# Altium schematic symbol library DIVERSOS.SchLib: 17 symbols
Pins are listed as number, name and electrical type; pins without a type are passive.

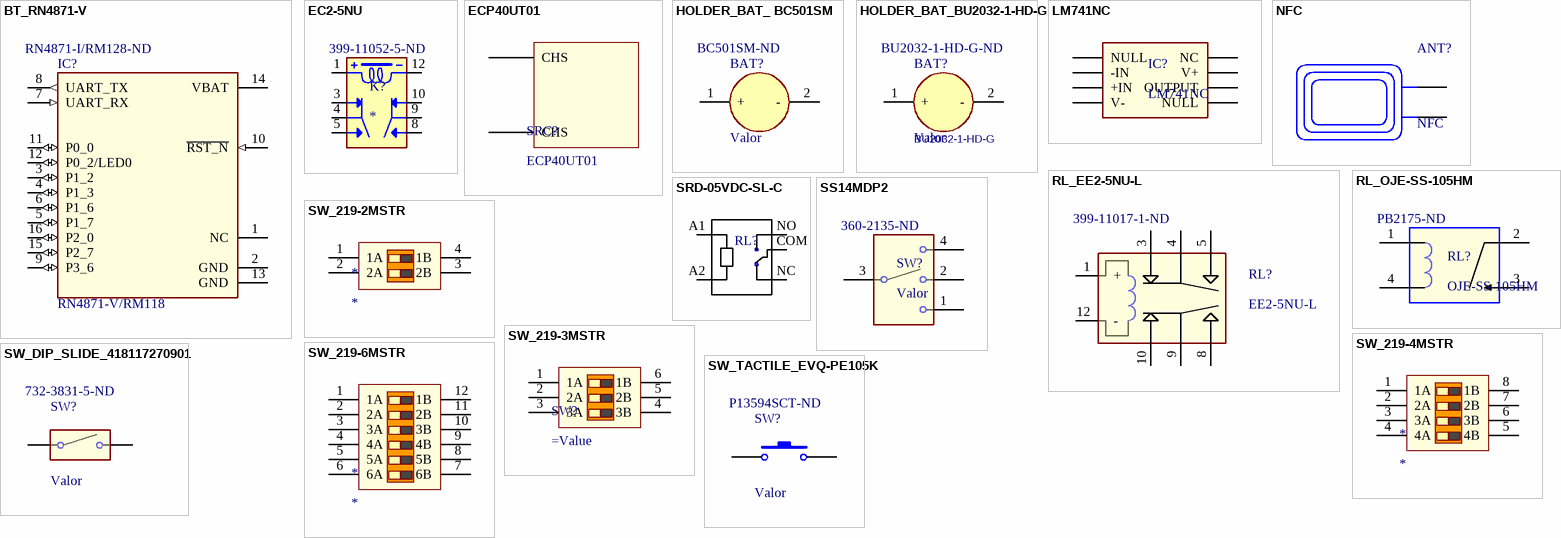
[diagram p0: symbols BT_RN4871-V to SW_TACTILE_EVQ-PE105K]

## BT_RN4871-V
designator IC?, comment RN4871-V/RM118  Supplier Part Number 1: RN4871-I/RM128-ND
Bluetooth 4.2 BLE Module, ASCII Interface, Shielded, Antenna, 9x11.5mm, Industrial Temp; Manufacturer Part Number: RN4871-I/RM128; Fabricante: Microchip; Footprint: SMD-16 Microchip; MPN: RN4871-V/RM118; Value: RN4871-V/RM118; ComponentLink1Description: loja; ComponentLink1URL: https://www.digikey.com/product-detail/en/microchip-technology/RN4871-I-RM128/RN4871-I-RM128-ND/8037765; ComponentLink2Description: datasheet; ComponentLink2URL: http://ww1.microchip.com/downloads/en/DeviceDoc/50002489C.pdf; Supplier 1: Digi-Key; Manufacturer: Microchip; RoHS: No; Category: RF Receivers, Transceivers; Stock 1: 1480; Pricing 1: 1=7,03000, 25=6,37000 (USD); ComponentLink3URL: http://www.microchip.com/mymicrochip/filehandler.aspx?ddocname=en586027&src-supplier=Digi-Key; ComponentLink3Description: http://www.microchip.com/mymicrochip/filehandler.aspx?ddocname=en586027&src-supplier=Digi-Key
footprint BT_RN4871-V/RM118 (SMD 11.5X9)
pins: 1 NC, 2 GND (power), 3 P1_2 (io), 4 P1_3 (io), 5 P1_7 (io), 6 P1_6 (io), 7 UART_RX (in), 8 UART_TX (out), 9 P3_6 (io), 10 ~{RST_N} (in), 11 P0_0 (io), 12 P0_2/LED0 (io), 13 GND (power), 14 VBAT (power), 15 P2_7 (io), 16 P2_0 (io)

## EC2-5NU
designator K?  Supplier Part Number 1: 399-11052-5-ND
Electromechanical Relay DPDT 2A 5VDC 178Ohm Through Hole; MP: EC2-5NU; MF: KEMET; Coil Current: 28mA; Coil Resistance: 178R; Coil Voltage (DC): 5V; Operate Time: 2ms; Max Voltage Rating (AC): 250V; Max Voltage Rating (DC): 220V; Coil Type: Non-Latching; Release Time: 1ms; Coil Power: 140mW; Number of Poles: 1; Relay Type: General Purpose; FootPrint: RELAY_EC2-5NU; Value: *; ComponentLink1Description: LOJA; ComponentLink1URL: https://www.digikey.com/products/en?keywords=EC2-5NU; ComponentLink2Description: DATASHEET; ComponentLink2URL: https://api.kemet.com/component-edge/download/datasheet/EC2-5NU.pdf; Supplier 1: Digi-Key; Manufacturer: KEMET; Manufacturer Part Number: EC2-5NU; RoHS: Yes; Category: Relays; Stock 1: 14165; Pricing 1: 1=1,63000, 10=1,53000, 25=1,36000, 50=1,29200, 100=1,22400, 250=1,08800, 500=1,02000, 1000=0,95200, 5000=0,91800 (USD); Mount: Through Hole,PCB; Number of Pins: 8; Contact Material: Gold,Silver; Min Operating Temperature: -40°C; Max Operating Temperature: 85°C; Throw Configuration: DPDT; Termination: PC Pin; Packaging: Rail/Tube; Max Current Rating: 2A; Contact Current Rating: 2A; Current Rating: 2A; Power Consumption: 140mW; Package Quantity: 35; Length: 15mm; Height: 9.4mm; Depth: 7.5mm; Radiation Hardening: No; REACH SVHC: No SVHC; ComponentLink3URL: https://datasheet.ciiva.com/29760/docfinderpartnumber-ec2-5nu-29760955.pdf?src-supplier=Digi-Key; ComponentLink3Description: https://datasheet.ciiva.com/29760/docfinderpartnumber-ec2-5nu-29760955.pdf?src-supplier=Digi-Key; ComponentLink4URL: https://datasheet.ciiva.com/28629/1751677-28629990.pdf?src-supplier=Element14; ComponentLink4Description: https://datasheet.ciiva.com/28629/1751677-28629990.pdf?src-supplier=Element14
footprint RELAY_EC2-5NU
pins: 1, 3, 4, 5, 8, 9, 10, 12

## ECP40UT01
designator SRC?
XP POWER         ECP40UT01             AC/DC Open Frame Power Supply, Fixed, 3 Output, 85 VAC, 264 VAC, 40 W, 5 V, 12V, -12V; Min Input Voltage (AC): 85V; Max Input Voltage (AC): 264V; Voltage - Output 1: 5V; Isolation Voltage: 4kV; Max Output Power: 40W; Current - Output 1: 5A; Current - Output 2: 2A; Current - Output 3: 500mA; Number of Outputs: 3; Efficiency: 89%; Approvals: TUV,CB; Supplier 1: Digi-Key; Manufacturer 1: XP Power; Stock 1: 3; Pricing 1: 1=48,30000, 5=46,85200, 10=45,40200, 25=43,47000, 100=40,57230 (USD); RoHS: Yes; Mount: Chassis Mount,Chassis; Min Operating Temperature: -20°C; Max Operating Temperature: 70°C; Voltage - Output 2: 12V; Voltage - Output 3: -12V; Output Power: 40W; Max Power Dissipation: 40W; Package Quantity: 1; Max Output Current: 2A; Max Input Voltage: 264V; Min Input Voltage: 85V; Length: 3.5inch; Height: 1.01inch; Width: 2inch; REACH SVHC: Unknown; ComponentLink1URL: https://datasheet.ciiva.com/8011/sf-ecp40-8011062.pdf?src-supplier=Element14; ComponentLink1Description: https://datasheet.ciiva.com/8011/sf-ecp40-8011062.pdf?src-supplier=Element14; Supplier Part Number 1: 1470-1260-ND; Value: ECP40UT01; Manufacturer Part Number 1: ECP40UT01
footprint ECP40UT01
pins: CHS, CHS

## HOLDER_BAT_ BC501SM
designator BAT?, comment Valor  Supplier Part Number 1: BC501SM-ND
BATTERY HOLDER COIN 12MM SMD; MPN: BC501SM; Manufacturer: Memory Protection Devices; Fabricante: MPD; Number of Cells: 1; Footprint: PCB, Surface Mount; Value: Valor; ComponentLink2Description: LOJA; ComponentLink2URL: https://www.digikey.com/product-detail/en/mpd-memory-protection-devices/BC501SM/BC501SM-ND/2439260; Supplier 1: Digi-Key; Manufacturer Part Number: BC501SM; RoHS: Yes; Category: Uncategorized; Stock 1: 7319; Pricing 1: 1=1,03000, 10=0,87200, 50=0,76400, 100=0,72030, 250=0,66312, 500=0,62272, 1000=0,58232, 2500=0,53183, 5000=0,49144 (USD); Mount: Surface Mount,PCB; Case/Package: SMD/SMT; Min Operating Temperature: -40°C; Max Operating Temperature: 85°C; Package Quantity: 200; Termination: SMD/SMT; ComponentLink1URL: https://datasheet.ciiva.com/4/bc501sm-datasheet-4073.pdf?src-supplier=Digi-Key; ComponentLink1Description: https://datasheet.ciiva.com/4/bc501sm-datasheet-4073.pdf?src-supplier=Digi-Key
footprint HOLDER_BC501 (Battery Holder (Open) Coin, 12.0mm 1 Cell SMD (SMT) Tab)
pins: 1 +, 2 -

## HOLDER_BAT_BU2032-1-HD-G
designator BAT?, comment Valor  MPN: BU2032-1-HD-G  Supplier Part Number 1: BU2032-1-HD-G-ND
BATTERY HOLDER COIN 20MM PC PIN; Manufacturer: MPC Data; Fabricante: MPD; Footprint: PCB, Through Hole 2 Pin; Value: Valor; ComponentLink1Description: DATASHEET; ComponentLink1URL: http://www.memoryprotectiondevices.com/datasheets/BU2032-1-HD-G-datasheet.pdf; ComponentLink2Description: LOJA; ComponentLink2URL: https://www.digikey.com/product-detail/en/mpd-memory-protection-devices/BU2032-1-HD-G/BU2032-1-HD-G-ND/755445; Supplier 1: Digi-Key; Manufacturer Part Number: BU2032-1-HD-G; RoHS: No; Category: Batteries and Accessories; Pricing 1: 1=1,00000, 10=0,84500, 50=0,74100, 100=0,69850, 250=0,64300, 500=0,60384, 1000=0,56467, 2500=0,51571, 5000=0,47654 (USD); ComponentLink3URL: https://datasheet.ciiva.com/30248/7bu2032-1-hd-g-datasheet-30248754.pdf?src-supplier=Onlinecomponents.com; ComponentLink3Description: https://datasheet.ciiva.com/30248/7bu2032-1-hd-g-datasheet-30248754.pdf?src-supplier=Onlinecomponents.com
footprint BU2032-1-HD-G (C2032 Battery Holder)
pins: 1 +, 2 -

## LM741NC
designator IC?
footprint LM741NC
pins: 1 NULL, 2 -IN, 3 +IN, 4 V-, 5 NULL, 6 OUTPUT, 7 V+, 8 NC

## NFC
designator ANT?
Fabricante: *; Footprint: *; Value: NFC; MPN: NFC
pins: 2, 2

## RL_EE2-5NU-L
designator RL?, comment EE2-5NU-L  Supplier Part Number 1: 399-11017-1-ND
RELAY GEN PURPOSE DPDT 2A 250V; FOOPRINT: SMD 6 PADS; VALUE: 250Vac@2A; FABRICANTE: KEMET; Max Voltage Rating (DC): 220V; Coil Current: 28mA; Coil Resistance: 178R; Coil Voltage (DC): 5V; Power Consumption: 140mW; Operate Time: 2ms; Release Time: 1ms; Number of Poles: 1; Relay Type: General Purpose; Coil Type: Non-Latching; ComponentLink1Description: LOJA; ComponentLink1URL: https://www.digikey.com/product-detail/en/kemet/EE2-5NU-L/399-11017-1-ND/4506469; ComponentLink2Description: DATASHEET; ComponentLink2URL: https://content.kemet.com/datasheets/KEM_R7002_EC2_EE2.pdf; MPN: EE2-5NU-L; Supplier 1: Digi-Key; Manufacturer: KEMET; Manufacturer Part Number: EE2-5NU-L; RoHS: Yes; Category: Signal Relays; Stock 1: 5622; Pricing 1: 1=1,90000, 10=1,78200, 25=1,58400, 50=1,50480, 100=1,42560, 250=1,26720 (USD); Mount: Surface Mount,PCB; Number of Pins: 8; Contact Material: Gold,Silver; Min Operating Temperature: -40°C; Max Operating Temperature: 85°C; Throw Configuration: DPDT; Max Current Rating: 2A; Packaging: Tape and Reel; Contact Current Rating: 2A; Max Voltage Rating (AC): 250V; Package Quantity: 500; Termination: Gull Wing; Coil Power: 140mW; Current Rating: 2A; Length: 15mm; Height: 9mm; Depth: 7.5mm; Radiation Hardening: No; ComponentLink3URL: https://datasheet.ciiva.com/29761/docfinderpartnumber-ee2-5nu-l-29761112.pdf?src-supplier=Digi-Key; ComponentLink3Description: https://datasheet.ciiva.com/29761/docfinderpartnumber-ee2-5nu-l-29761112.pdf?src-supplier=Digi-Key; ComponentLink4URL: https://datasheet.ciiva.com/48484/kem-r7002-ec2-ee2-48484311.pdf?src-supplier=Avnet; ComponentLink4Description: https://datasheet.ciiva.com/48484/kem-r7002-ec2-ee2-48484311.pdf?src-supplier=Avnet; ComponentLink5URL: https://datasheet.ciiva.com/29891/kem-r7002-ec2-ee2-29891595.pdf?src-supplier=Avnet; ComponentLink5Description: https://datasheet.ciiva.com/29891/kem-r7002-ec2-ee2-29891595.pdf?src-supplier=Avnet
footprint RL_EE2_SERIES (SMD 6 PADS 15X10X7.5 (LXHXW))
pins: 1 +, 3 3C, 4 4COM, 5 5O, 8 8O, 9 9COM, 10 10C, 12 -

## RL_OJE-SS-105HM
designator RL?, comment OJE-SS-105HM  Supplier Part Number 1: PB2175-ND
Electromechanical Relay 5VDC 55Ohm 10A SPST-NO (18.2x10.2x14.7)mm THT Miniature Relay; Manufacturer: TE Connectivity; Manufacturer Part Number: 2-1419128-9; Fabricante: TE Connectivity Potter & Brumfield Relays; Throw Configuration: SPST; Coil Power: 500mW; Coil Resistance: 55.6R; Relay Type: General Purpose; Coil Current: 91mA; Coil Type: Non-Latching; Coil Voltage (DC): 5V; Operate Time: 10ms; Release Time: 4ms; Contact Voltage Rating (DC): 30V; Footprint: PTH 4 PIN; MPN: OJE-SS-105HM; ComponentLink1Description: LOJA; ComponentLink1URL: https://www.digikey.com/product-detail/en/te-connectivity-potter-brumfield-relays/OJE-SS-105HM000/PB2175-ND/2398651; ComponentLink2Description: datasheet; ComponentLink2URL: https://br.mouser.com/datasheet/2/418/NG_DS_OJ_OJE_series_relay_data_sheet_E_0214_OJ-1265005.pdf; Value: OJE-SS-105HM; Supplier 1: Digi-Key; RoHS: Yes; Category: Signal Relays; Stock 1: 2153; Pricing 1: 1=1,58000, 10=1,48000, 25=1,31520, 50=1,24960, 100=1,18380, 250=1,05232, 500=0,98654, 1000=0,92077, 5000=0,88788 (USD); Mount: Through Hole; Weight: 9g; Contact Material: Silver,Cadmium; Min Operating Temperature: -30°C; Max Operating Temperature: 70°C; Packaging: Tray; Contact Current Rating: 10A; Package Quantity: 500; Termination: PCB; Length: 0.717inch; Height: 14.7mm; Width: 0.4inch; REACH SVHC: Unknown; ComponentLink3URL: https://datasheet.ciiva.com/2408/eng-cd-1461103-e-1461103-oje-ss-hm-000-customer-e-2408304.pdf?src-supplier=Digi-Key; ComponentLink3Description: https://datasheet.ciiva.com/2408/eng-cd-1461103-e-1461103-oje-ss-hm-000-customer-e-2408304.pdf?src-supplier=Digi-Key; ComponentLink4URL: https://datasheet.ciiva.com/5761/1652787-5761402.pdf?src-supplier=Farnell; ComponentLink4Description: https://datasheet.ciiva.com/5761/1652787-5761402.pdf?src-supplier=Farnell
footprint RL_OJE-SS-105HM (SPST-NO (1 Form A)   PTH 4PIN)
pins: 1, 2, 3, 4

## SRD-05VDC-SL-C
designator RL?  (value not drawn)
Relay 10 A SPDT; Fabricante: SONGLE RELAY; ComponentLink1Description: Datasheet; ComponentLink1URL: https://img.filipeflop.com/files/download/Datasheet_Rele_Songle_SRD-05VDC-SL-C.pdf; Footprint: Bulk; MPN: SRD-05VDC-SL-C; Value: SRD-05VDC-SL-C
footprint SPDT (SRD-05VDC-SL-C)
pins: A1, A2, COM, NC, NO

## SS14MDP2
designator SW?, comment Valor  Supplier Part Number 1: 360-2135-ND
SWITCH SLIDE SP3T 100MA 30V; MPN: SS14MDP2; Fabricante: NKK Switches; Mechanical Life: 10000Cycles; Actuator Material: Nylon,Polyamide; Throw Configuration: SP3T,SPDT; Voltage Rating (AC): 28V; Actuator Type: Standard; Illumination Type: Non-Illuminated; Contact Style: Non-Shorting; Switch Travel: 2mm; Switch Function: On-On-On; Value: Valor; Footprint: SP3T; ComponentLink1Description: Datasheet; ComponentLink1URL: https://www.nkkswitches.com/pdf/SSnonilluminated.pdf; ComponentLink2Description: Loja; ComponentLink2URL: https://www.digikey.com/product-detail/en/nkk-switches/SS14MDP2/360-2135-ND/1014831; Supplier 1: Digi-Key; Manufacturer: NKK Switches; Manufacturer Part Number: SS14MDP2; RoHS: Yes; Category: Slide Switches; Stock 1: 1669; Pricing 1: 1=1,90000, 10=1,84700, 25=1,67960, 100=1,45920, 250=1,32240, 500=1,23120, 1000=1,14000, 2500=1,03360, 5000=0,95760 (USD); Mount: Through Hole,PCB; Contact Plating: Silver; Contact Material: Brass,Bronze,Silver; Housing Material: Resin; Min Operating Temperature: -15°C; Max Operating Temperature: 60°C; Orientation: Vertical; Packaging: Tray; Contact Current Rating: 100mA; Max Current Rating: 100mA; Voltage Rating (DC): 30V; Max Voltage Rating (DC): 30V; Package Quantity: 1; Termination: PC Pins; Electrical Life: 10000Cycles; Current Rating: 100mA; Length: 15.8mm; Depth: 4mm; Actuator Length: 2mm; Lead Free: Lead Free; REACH SVHC: No SVHC; Flammability Rating: UL94 V-0; ComponentLink3URL: https://datasheet.ciiva.com/16297/ss14mdp2-16297924.pdf?src-supplier=Future+Electronics; ComponentLink3Description: https://datasheet.ciiva.com/16297/ss14mdp2-16297924.pdf?src-supplier=Future+Electronics; ComponentLink4URL: https://datasheet.ciiva.com/29119/704276-da-01-en-schiebes-on-on-on-100x100-oben-bet-silb-29119650.pdf?src-supplier=Conrad; ComponentLink4Description: https://datasheet.ciiva.com/29119/704276-da-01-en-schiebes-on-on-on-100x100-oben-bet-silb-29119650.pdf?src-supplier=Conrad; ComponentLink5URL: https://datasheet.ciiva.com/26842/getdatasheetpartid-568707-26842742.pdf?src-supplier=Verical; ComponentLink5Description: https://datasheet.ciiva.com/26842/getdatasheetpartid-568707-26842742.pdf?src-supplier=Verical; ComponentLink6URL: https://datasheet.ciiva.com/2889/ssnonilluminated-2889245.pdf?src-supplier=Digi-Key; ComponentLink6Description: https://datasheet.ciiva.com/2889/ssnonilluminated-2889245.pdf?src-supplier=Digi-Key; ComponentLink7URL: https://datasheet.ciiva.com/30515/70192900-30515069.pdf?src-supplier=Allied+Electronics; ComponentLink7Description: https://datasheet.ciiva.com/30515/70192900-30515069.pdf?src-supplier=Allied+Electronics
footprint SP3T (SWITCH SLIDE SP3T 100MA 30V)
pins: 1, 2, 3, 4

## SW_219-2MSTR
designator *
Switch DIP ON OFF SPST 2 Raised Slide 0.1A 20VDC Gull Wing 2.54mm SMD T/R; Manufacturer: CTS; Manufacturer Part Number: 219-2MSTR; Mechanical Life: 2000Cycles; Max Current Rating: 100mA; Voltage Rating (DC): 20V; Number of Positions: 2; Actuator Type: Slide (Standard); Pitch: 0.1inch; Washable: Yes; Supplier 1: Digi-Key; RoHS: Yes; Category: DIP Switches; Stock 1: 19685; Pricing 1: 1=0,69000, 10=0,66200, 25=0,63720, 100=0,55290, 250=0,50452, 500=0,46884 (USD); Mount: Surface Mount; Contact Material: Copper; Contact Plating: Gold,Tin; Min Operating Temperature: -55°C; Max Operating Temperature: 85°C; Orientation: Straight; Throw Configuration: SPST; Packaging: Tape and Reel; Package Quantity: 1000; Current Rating: 100mA; Termination: Gull Wing; Electrical Life: 2000Cycles; Max Voltage Rating (DC): 20V; Length: 0.258inch; Terminal Pitch: 2.54mm; Depth: 9.91mm; Radiation Hardening: No; Lead Free: Lead Free; ComponentLink1URL: https://datasheet.ciiva.com/15210/getdatasheetpartid-92384-15210150.pdf?src-supplier=Verical; ComponentLink1Description: https://datasheet.ciiva.com/15210/getdatasheetpartid-92384-15210150.pdf?src-supplier=Verical; ComponentLink2URL: https://datasheet.ciiva.com/8679/219-8679450.pdf?src-supplier=Avnet; ComponentLink2Description: https://datasheet.ciiva.com/8679/219-8679450.pdf?src-supplier=Avnet; ComponentLink3URL: https://datasheet.ciiva.com/16316/219-16316219.pdf?src-supplier=Future+Electronics; ComponentLink3Description: https://datasheet.ciiva.com/16316/219-16316219.pdf?src-supplier=Future+Electronics; Supplier Part Number 1: CT3114CT-ND
footprint 219-2MSTR
pins: 1 1A, 2 2A, 3 2B, 4 1B

## SW_219-3MSTR
designator SW?
Dip Switch SPST Position Surface Mount Slide (Standard) Actuator 100mA 20VDC; Manufacturer 1: CTS; Manufacturer Part Number 1: 219-3MSTR; Mechanical Life: 2000Cycles; Number of Positions: 3; Max Voltage Rating (DC): 20V; Pitch: 0.1inch; Washable: Yes; Stock 1: 4406; Pricing 1: 1=0,77000, 10=0,74100, 25=0,71240, 100=0,61840, 250=0,56424, 500=0,52432 (USD); RoHS: Yes; Mount: Surface Mount; Contact Material: Copper; Contact Plating: Gold,Tin; Min Operating Temperature: -55°C; Max Operating Temperature: 85°C; Current Rating: 100mA; Termination: Gull Wing; Electrical Life: 2000Cycles; Packaging: Tape and Reel; Throw Configuration: SPST; Voltage Rating (DC): 20V; Actuator Type: Slide (Standard); Orientation: Straight; Package Quantity: 1000; Max Current Rating: 100mA; Length: 0.358inch; Lead Free: Lead Free; ComponentLink1URL: https://datasheet.ciiva.com/12451/219-16776-12451382.pdf?src-supplier=Mouser; ComponentLink1Description: https://datasheet.ciiva.com/12451/219-16776-12451382.pdf?src-supplier=Mouser; ComponentLink2URL: https://datasheet.ciiva.com/8677/219-8677084.pdf?src-supplier=Avnet; ComponentLink2Description: https://datasheet.ciiva.com/8677/219-8677084.pdf?src-supplier=Avnet; Supplier 1: Digi-Key; Supplier Part Number 1: CT3094CT-ND
footprint 219-3MSTR
pins: 1 1A, 2 2A, 3 3A, 4 3B, 5 2B, 6 1B

## SW_219-4MSTR
designator *
Switch DIP ON OFF SPST 4 Raised Slide 0.1A 20VDC Gull Wing 2.54mm SMD T/R; Manufacturer: CTS; Manufacturer Part Number: 219-4MSTR; Max Current Rating: 100mA; Voltage Rating (DC): 20V; Number of Positions: 4; Electrical Life: 2000Cycles; Actuator Type: Slide (Standard); Pitch: 0.1inch; Washable: Yes; Supplier 1: Digi-Key; RoHS: Yes; Category: DIP Switches; Stock 1: 18811; Pricing 1: 1=0,86000, 10=0,82700, 25=0,77320, 100=0,67150, 250=0,61104, 500=0,56646 (USD); Mount: Surface Mount; Contact Material: Copper; Contact Plating: Gold; Min Operating Temperature: -55°C; Max Operating Temperature: 85°C; Throw Configuration: SPST; Packaging: Tape and Reel; Package Quantity: 1000; Max Voltage Rating (DC): 20V; Termination: Gull Wing; Orientation: Straight; Current Rating: 100mA; Length: 0.458inch; Depth: 9.91mm; Radiation Hardening: No; Lead Free: Lead Free; ComponentLink1URL: https://datasheet.ciiva.com/26935/getdatasheetpartid-771053-26935800.pdf?src-supplier=Verical; ComponentLink1Description: https://datasheet.ciiva.com/26935/getdatasheetpartid-771053-26935800.pdf?src-supplier=Verical; ComponentLink2URL: https://datasheet.ciiva.com/2863/219-2863494.pdf?src-supplier=Digi-Key; ComponentLink2Description: https://datasheet.ciiva.com/2863/219-2863494.pdf?src-supplier=Digi-Key; ComponentLink3URL: https://datasheet.ciiva.com/29891/219-29891352.pdf?src-supplier=Avnet; ComponentLink3Description: https://datasheet.ciiva.com/29891/219-29891352.pdf?src-supplier=Avnet; ComponentLink4URL: https://datasheet.ciiva.com/29891/219-29891353.pdf?src-supplier=Avnet; ComponentLink4Description: https://datasheet.ciiva.com/29891/219-29891353.pdf?src-supplier=Avnet; ComponentLink5URL: https://datasheet.ciiva.com/16316/219-16316202.pdf?src-supplier=Future+Electronics; ComponentLink5Description: https://datasheet.ciiva.com/16316/219-16316202.pdf?src-supplier=Future+Electronics; Supplier Part Number 1: CT3117CT-ND
footprint 219-4MSTR
pins: 1 1A, 2 2A, 3 3A, 4 4A, 5 4B, 6 3B, 7 2B, 8 1B

## SW_219-6MSTR
designator *
Switch DIP ON OFF SPST 6 Raised Slide 0.1A 20VDC Gull Wing 2000Cycles 2.54mm SMD T/R; Manufacturer: CTS; Manufacturer Part Number: 219-6MSTR; Actuator Type: Slide (Standard); Number of Positions: 6; Current Rating: 100mA; Max Voltage Rating (DC): 20V; Pitch: 0.1inch; Washable: Yes; Supplier 1: Digi-Key; RoHS: Yes; Category: DIP Switches; Pricing 1: 1000=0,61776 (USD); Mount: Surface Mount; Contact Plating: Gold; Contact Material: Copper; Min Operating Temperature: -55°C; Max Operating Temperature: 85°C; Termination: Gull Wing; Electrical Life: 2000Cycles; Packaging: Tape and Reel; Throw Configuration: SPST; Voltage Rating (DC): 20V; Package Quantity: 1000; Length: 0.658inch; Radiation Hardening: No; ComponentLink1URL: https://datasheet.ciiva.com/29890/219-29890599.pdf?src-supplier=Avnet; ComponentLink1Description: https://datasheet.ciiva.com/29890/219-29890599.pdf?src-supplier=Avnet; Supplier Part Number 1: 219-6MSTR-ND
footprint 219-6MSTR
pins: 1 1A, 2 2A, 3 3A, 4 4A, 5 5A, 6 6A, 7 6B, 8 5B, 9 4B, 10 3B, 11 2B, 12 1B

## SW_DIP_SLIDE_418117270901
designator SW?, comment Valor  Supplier Part Number 1: 732-3831-5-ND
SWITCH SLIDE DIP SPST 25MA 24V; MPN: 418117270901; Manufacturer: Wurth Electronics; Fabricante: WURTH; Body Material: Nylon,Polyamide; Mechanical Life: 5000Cycles; Number of Positions: 1; Electrical Life: 2000Cycles; Actuator Type: Slide (Standard); Pitch: 0.1inch; Washable: No; Footprint: PTH 2PIN; Value: Valor; ComponentLink2Description: LOJA; ComponentLink2URL: https://www.digikey.com/product-detail/en/wurth-electronics-inc/418117270901/732-3831-5-ND/3174480; Supplier 1: Digi-Key; Manufacturer Part Number: 418117270901; RoHS: Yes; Category: DIP Switches; Stock 1: 3903; Pricing 1: 1=0,88000, 10=0,86100, 50=0,78600, 148=0,71101, 296=0,63601 (USD); Mount: Through Hole; Contact Plating: Gold; Min Operating Temperature: -40°C; Max Operating Temperature: 85°C; Package Quantity: 148; Packaging: Rail/Tube; Current Rating: 25mA; Voltage Rating (DC): 24V; Termination: PC Pin; Throw Configuration: SPST; Length: 0.139inch; Lead Free: Lead Free; ComponentLink1URL: https://datasheet.ciiva.com/2864/4181172709xx-2864172.pdf?src-supplier=Digi-Key; ComponentLink1Description: https://datasheet.ciiva.com/2864/4181172709xx-2864172.pdf?src-supplier=Digi-Key
footprint DIP_SW_418117270901 (Dip Switch SPST 1 Position Through Hole Slide (Standard) Actuator 25mA 24VDC)
pins: 1, 2

## SW_TACTILE_EVQ-PE105K
designator SW?, comment Valor  Supplier Part Number 1: P13594SCT-ND
SWITCH TACTILE SPST-NO 0.05A 12V; MPN: EVQ-PE105K; Fabricante: PANASONIC; Mechanical Life: 50000Cycles; Operating Force: 1N; Current Rating: 50mA; Throw Configuration: SPST; Contact Resistance: 100mR; Switch Function: Off-Mom; Actuator Type: Standard; Illumination Type: Non-Illuminated,Illuminated; Switch Travel: 0.25mm; Actuator Length: 1.5mm; Footprint: 6.0 mm×3.5 mm SMD; Value: Valor; ComponentLink1Description: DATASHEET; ComponentLink1URL: https://www3.panasonic.biz/ac/e_download/control/switch/light-touch/catalog/sw_lt_eng_6035s.pdf; ComponentLink2Description: LOJA; ComponentLink2URL: https://www.digikey.com/product-detail/en/panasonic-electronic-components/EVQ-PE105K/P13594SCT-ND/1245515; Supplier 1: Digi-Key; Manufacturer: Panasonic; Manufacturer Part Number: EVQ-PE105K; RoHS: Yes; Category: Tactile Switches; Stock 1: 11375; Pricing 1: 1=0,60000, 10=0,58100, 25=0,55960, 100=0,48440, 250=0,44132, 500=0,40902, 1000=0,36596 (USD); Mount: Surface Mount; Contact Plating: Silver,Gold; Color: Black; Min Operating Temperature: -30°C; Max Operating Temperature: 85°C; Packaging: Tape and Reel; Package Quantity: 1; Voltage Rating (DC): 12V; Max Voltage Rating (DC): 12V; Max Current Rating: 50mA; Orientation: Straight; Termination: Gull Wing; Electrical Life: 50000Cycles; Contact Current Rating: 50mA; Length: 6mm; Height: 5mm; Width: 3.5mm; Depth: 7.2mm; Radiation Hardening: No; Lead Free: Lead Free; REACH SVHC: No SVHC; ComponentLink3URL: https://datasheet.ciiva.com/7576/1520559-7576409.pdf?src-supplier=Newark; ComponentLink3Description: https://datasheet.ciiva.com/7576/1520559-7576409.pdf?src-supplier=Newark; ComponentLink4URL: https://datasheet.ciiva.com/16545/atk0000ce7-16545190.pdf?src-supplier=Avnet+Asia; ComponentLink4Description: https://datasheet.ciiva.com/16545/atk0000ce7-16545190.pdf?src-supplier=Avnet+Asia; ComponentLink5URL: https://datasheet.ciiva.com/8164/atk0000ce7-8164969.pdf?src-supplier=Avnet; ComponentLink5Description: https://datasheet.ciiva.com/8164/atk0000ce7-8164969.pdf?src-supplier=Avnet; ComponentLink6URL: https://datasheet.ciiva.com/46401/1520559-46401323.pdf?src-supplier=Element14; ComponentLink6Description: https://datasheet.ciiva.com/46401/1520559-46401323.pdf?src-supplier=Element14; ComponentLink7URL: https://datasheet.ciiva.com/16438/atk0000ce7-16438091.pdf?src-supplier=Future+Electronics; ComponentLink7Description: https://datasheet.ciiva.com/16438/atk0000ce7-16438091.pdf?src-supplier=Future+Electronics
footprint EVQ-PE105K_SMD (6.0 mm×3.5 mm SMD 2 PIN)
pins: 1, 2